# EAGLE library part HONEYWELL_PRESSURE_SENSOR (library eDNA)
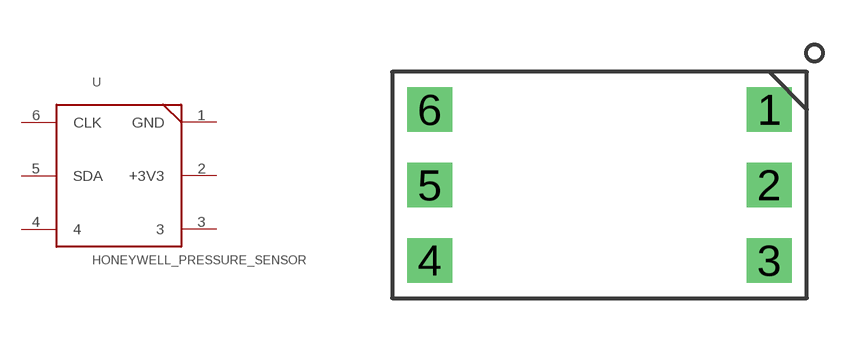
[diagram p0: symbol with the pads of DIP6; footprint DIP6]

Designator prefix -

## HONEYWELL_PRESSURE_SENSOR  [DIP6]
1  GND
2  +3V3
3  3
4  4
5  SDA
6  CLK

## Footprint DIP6 (pad centres in mm)
drill 1 square: 1 0,0; 2 0,-2.54; 3 0,-5.08; 4 -11.43,-5.08; 5 -11.43,-2.54; 6 -11.43,0